# Altium schematic symbol library Mosfet P FDC608PZ.SchLib: 1 symbol
Pins are listed as number, name and electrical type; pins without a type are passive.

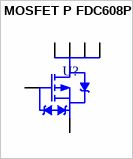
[diagram p0: symbol MOSFET P FDC608PZ]

## MOSFET P FDC608PZ
designator U?  (value not drawn)
FAIRCHILD SEMICONDUCTOR - FDC608PZ - MOSFET, P, SMD, SSOT-6; farnell: 1495225
footprint FDC608PZ (FAIRCHILD SEMICONDUCTOR - FDC608PZ - MOSFET, P, SMD, SSOT-6)
pins: 1 D, 2 D, 3 G, 4 S, 5 D, 6 D